# EAGLE library part S6B-XASK-1 (library jst-xa)
Wire-to-Board 2.5mm pitch top mount connector Source: http://www.jst-mfg.com/product/pdf/jpn/XA1.pdf http://www.jst-mfg.com/product/detail.php?series=272
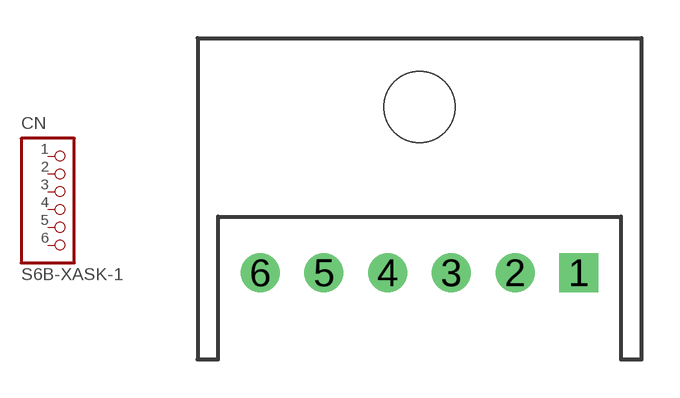
[diagram p12: symbol with the pads of S6B-XASK-1; footprint S6B-XASK-1]

Designator prefix CN

## S6B-XASK-1  [S6B-XASK-1]
1  1  pas
2  2  pas
3  3  pas
4  4  pas
5  5  pas
6  6  pas

## Footprint S6B-XASK-1 (pad centres in mm)
drill 1.016 square: 1 6.25,0
drill 1.016: 2 3.75,0; 3 1.25,0; 4 -1.25,0; 5 -3.75,0; 6 -6.25,0
hole 2.8 at 0,6.5